# Altium schematic symbol library Microfit5pin.SchLib: 1 symbol
Pins are listed as number, name and electrical type; pins without a type are passive.

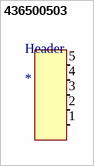
[diagram p0: symbol 436500503]

## 436500503
designator Header
Micro-Fit 3.0 Right-Angle Header, 3.00mm Pitch, Single Row, 5 Circuits, with PCB Press-fit Metal Retention Clip
pins: 1, 2, 3, 4, 5